# EAGLE library part R-555 (library comma.ai)
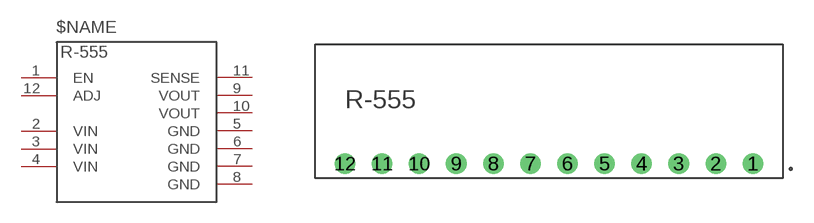
[diagram p9: symbol with the pads of R-555; footprint R-555]

Designator prefix -

## R-555  [R-555]
1  EN
2  VIN
3  VIN
4  VIN
5  GND
6  GND
7  GND
8  GND
9  VOUT
10  VOUT
11  SENSE
12  ADJ

## Footprint R-555 (pad centres in mm)
drill 0.9: 1 13.97,0; 2 11.43,0; 3 8.89,0; 4 6.35,0; 5 3.81,0; 6 1.27,0; 7 -1.27,0; 8 -3.81,0; 9 -6.35,0; 10 -8.89,0; 11 -11.43,0; 12 -13.97,0